# Altium footprint library LPC6-1776.PcbLib: 1 footprints
Each footprint in its own frame and in the unit in brackets; x right, y up, seen from the top. Pads: shape width x height; smd on the part's side, far side on the other; paste and mask are expansions set on the pad; w line width, h text height; cw(c..) or ccw(c..) is an arc to the next point about the centre after c.
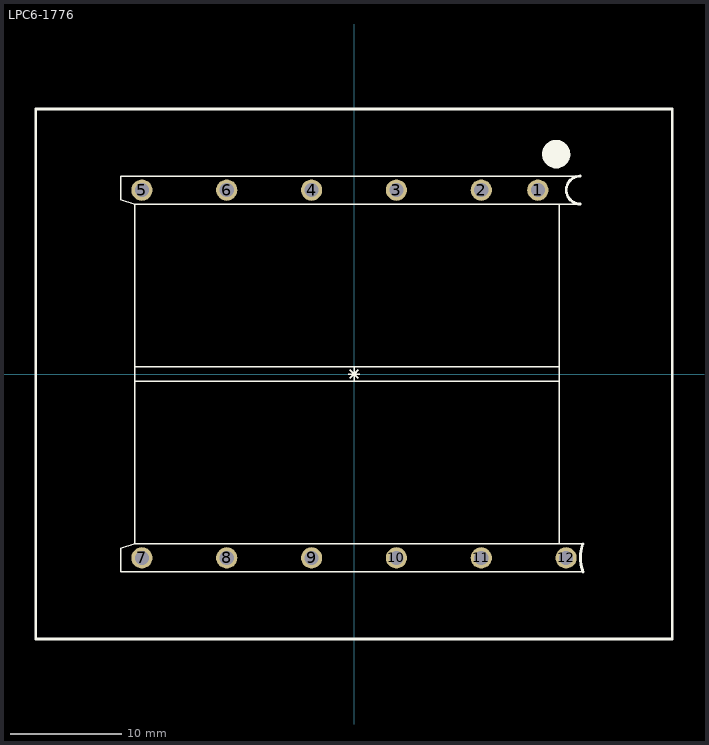
[diagram p0: the footprint, top view; thin cyan lines are the x and y axes]

## LPC6-1776 [mil]
pads (12):
  round 75 hole 50: 1(650,650) 2(450,650) 3(150,650) 4(-150,650) 5(-750,650) 6(-450,650) 7(-750,-650) 8(-450,-650) 9(-150,-650) 10(150,-650) 11(450,-650) 12(750,-650)
Top Overlay:
  lines w5: -20,0 20,0 ; -15,-15 15,15 0,0 ; -15,15 15,-15 ; 0,-25 0,25 ; 725,-600 725,600 ; 725,-25 -775,-25 ; 725,25 -775,25 ; 800,600 -775,600 ; 800,700 -825,700 -825,616.67 -775,600 ; 809.53,-700 -825,-700 -825,-668.75 ; 810,-600 -775,-600 ; -825,-668.75 -825,-616.67 ; -825,-668.75 -825,-616.67 ; -825,-616.67 -775,-600 ; -775,-600 -775,-25 ; -775,-25 -775,25 ; -775,25 -775,600
  lines w10: 800,601.01 cw(c800,650.5) 800,700 ; 809.21,-600.72 ccw(c950,-650) 809.53,-700.17 ; -1125,-937.5 1125,-937.5 1125,937.5 -1125,937.5 -1125,-937.5
  lines w50: 739.03,784.81 ccw(c715,777.48) 740,775
3D body: height 1675, standoff 1300, extent -774,-603 724,603
3D body: height 275, standoff 75, extent -774,-603 724,603
3D body: height 150, standoff 0, extent -821,-696 801,-603
3D body: height 150, standoff 0, extent -822,603 770,696
3D body: height 1300, standoff 275, extent -1110,-925 1115,925